# Altium schematic symbol library MOSFET,N Ch,60V,464A.Schlib: 1 symbol
Pins are listed as number, name and electrical type; pins without a type are passive.

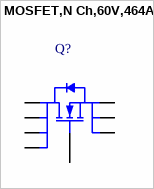
[diagram p0: symbol MOSFET,N Ch,60V,464A]

## MOSFET,N Ch,60V,464A
designator Q?
pins: 1 G, 2 S, 3 S, 4 S, 5 D, 6 D, 7 D, 8 D